# Altium footprint library International Rectifier Footprints.PcbLib: 101 footprints (part 7 of 7)
Each footprint in its own frame and in the unit in brackets; x right, y up, seen from the top. Pads: shape width x height; smd on the part's side, far side on the other; paste and mask are expansions set on the pad; w line width, h text height; cw(c..) or ccw(c..) is an arc to the next point about the centre after c.
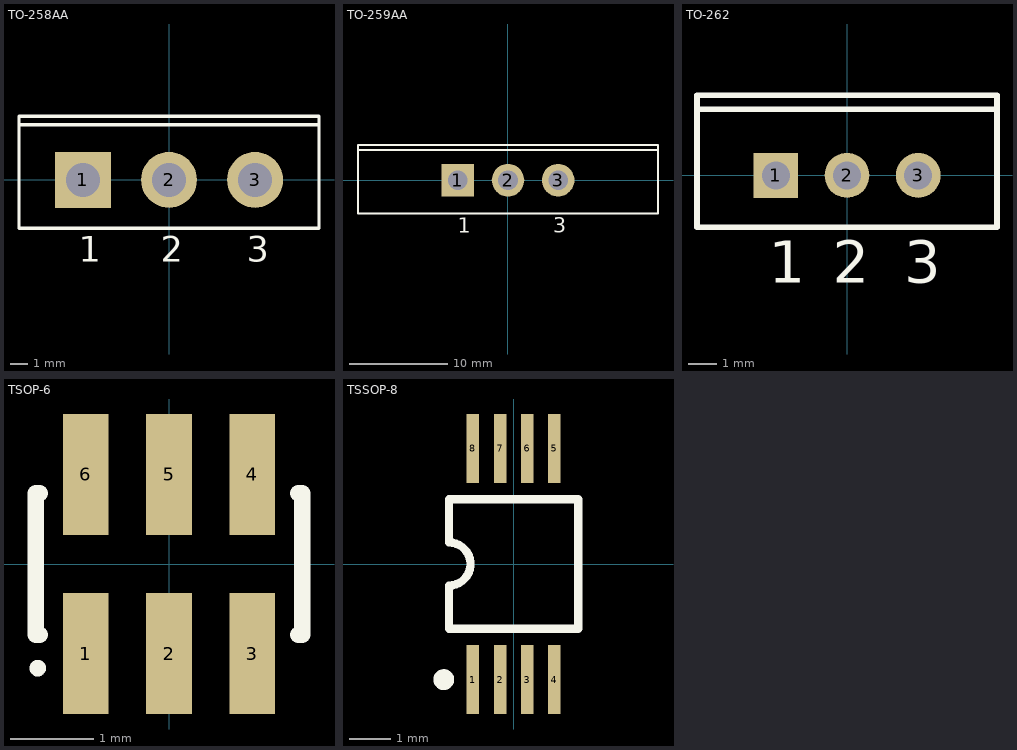
[diagram p6: the footprints below, top view; thin cyan lines are the x and y axes]

## TO-258AA [mm] "TO, Thru-Hole, Vertical, Heatsink Mounted; 3 In-Line Leads; Pitch 5.08 mm"
height 21
pads (3):
  rect 3.3x3.3 hole 2: 1(-5.08,0)
  round 3.3 hole 2: 2(0,0) 3(5.08,0)
Top Overlay:
  lines w0.2: -8.85,3.25 8.85,3.25 ; -8.85,-2.85 8.85,-2.85 8.85,3.75 -8.85,3.75 -8.85,-2.85
  text "1" at -5.33,-4.825 h1.5
  text "2" at -0.5,-4.825 h1.5
  text "3" at 4.58,-4.825 h1.5

## TO-259AA [mm] "SIP; 3 Leads; Body 13.7 x 30.2 x 6.5 mm (typ); Pitch 5.08 mm"
height 14
pads (3):
  rect 3.3x3.3 hole 2: 1(-5.08,0)
  round 3.3 hole 2: 2(0,0) 3(5.08,0)
Top Overlay:
  lines w0.2: -15.2,3.05 15.2,3.05 ; -15.2,-3.35 -15.2,3.55 15.2,3.55 15.2,-3.35 -15.2,-3.35
  text "3" at 4.572,-5.33 h1.5
  text "1" at -5.08,-5.33 h1.5

## TO-262 [mm] "TO, Thru-Hole, Vertical, Heatsink Mounted; 3 In-Line Leads; Pitch 2.54 mm"
height 14.6
pads (3):
  rect 1.6x1.6 hole 1: 1(-2.54,0)
  round 1.6 hole 1: 2(0,0) 3(2.54,0)
Top Overlay:
  lines w0.2: -5.35,2.35 5.35,2.35 ; -5.35,-1.85 -5.35,2.85 5.35,2.85 5.35,-1.85 -5.35,-1.85
  text "3" at 2.04,-3.825 h1.5
  text "1" at -2.79,-3.825 h1.5
  text "2" at -0.5,-3.825 h1.5

## TSOP-6 [mm] "SOT-457/SC-74; 6 Leads; Body 3.1 x 2.9 mm, inc. leads (LxW max)"
height 1.1
pads (6):
  rect 0.55x1.45 smd: 1(-1,-1.075) 2(0,-1.075) 3(1,-1.075) 4(1,1.075) 5(0,1.075) 6(-1,1.075)
Top Overlay:
  circle w0.1: c-1.575,-1.25 r0.05
  lines w0.2: -1.55,-0.85 -1.6,-0.85 -1.6,0.85 -1.55,0.85 ; 1.55,-0.85 1.6,-0.85 1.6,0.85 1.55,0.85

## TSSOP-8 [mm] "Shrink Small Outline; 8 Leads; Body Width 4.4 mm; Pitch 0.65 mm"
height 1.2
pads (8):
  rect 0.3x1.65 smd: 1(-0.975,-2.775) 2(-0.325,-2.775) 3(0.325,-2.775) 4(0.975,-2.775) 5(0.975,2.775) 6(0.325,2.775) 7(-0.325,2.775) 8(-0.975,2.775)
Top Overlay:
  circle w0.25: c-1.675,-2.775 r0.125
  lines w0.2: -1.55,-1.55 1.55,-1.55 1.55,1.55 -1.55,1.55 -1.55,0.517 cw(c-1.55,0) -1.55,-0.517 -1.55,-1.55